# Altium schematic symbol library BBCMP-P12.Schlib: 1 symbol
Pins are listed as number, name and electrical type; pins without a type are passive.

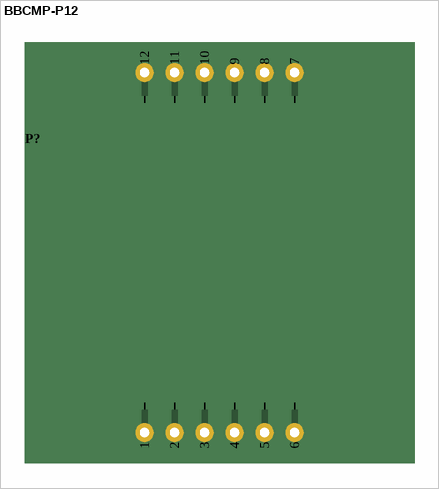
[diagram p0: symbol BBCMP-P12]

## BBCMP-P12
designator P?  (no BOM)
pins: 1, 2, 3, 4, 5, 6, 7, 8, 9, 10, 11, 12